# EAGLE library part MCP3202-BI_SN (library SamacSys_Parts)
IC, A-D, Converter, 12 bit, SMT, MCP3202BISN Source: Datasheet <https://componentsearchengine.com/Datasheets/1/MCP3202-BI_SN.pdf>
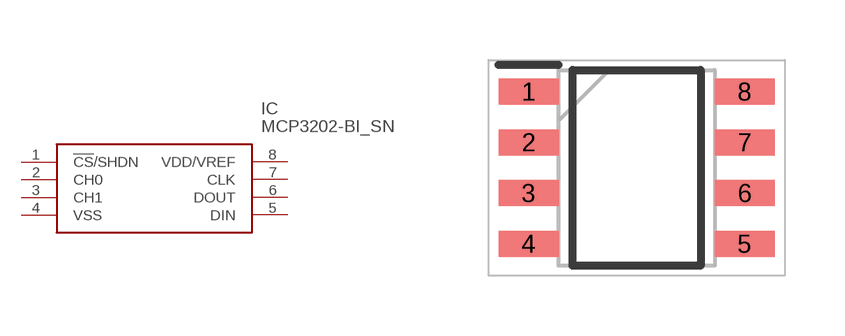
[diagram p0: symbol with the pads of SOIC127P600X175-8N; footprint SOIC127P600X175-8N]

Designator prefix IC

## MCP3202-BI_SN (Description: IC, A-D, Converter, 12 bit, SMT, MCP3202BISN; Height: 1.75mm; Manufacturer_Name: Microchip; Manufacturer_Part_Number: MCP3202-BI/SN; Mouser_Part_Number: 579-MCP3202BISN; Mouser_Price-Stock: https://www.mouser.com/Search/Refine.aspx?Keyword=579-MCP3202BISN)  [SOIC127P600X175-8N]
1  !CS!/SHDN  in
2  CH0
3  CH1
4  VSS  pwr
5  DIN  in
6  DOUT  out
7  CLK  in
8  VDD/VREF  pwr

## Footprint SOIC127P600X175-8N (pad centres in mm)
8-Lead(SN) SOIC
smd 1.5 x 0.65: 1 -2.7,1.905; 2 -2.7,0.635; 3 -2.7,-0.635; 4 -2.7,-1.905; 5 2.7,-1.905; 6 2.7,-0.635; 7 2.7,0.635; 8 2.7,1.905